# Altium integrated library ON Semi Signal Management Operational Amplifiers.IntLib: 435 symbols (part 4 of 12)
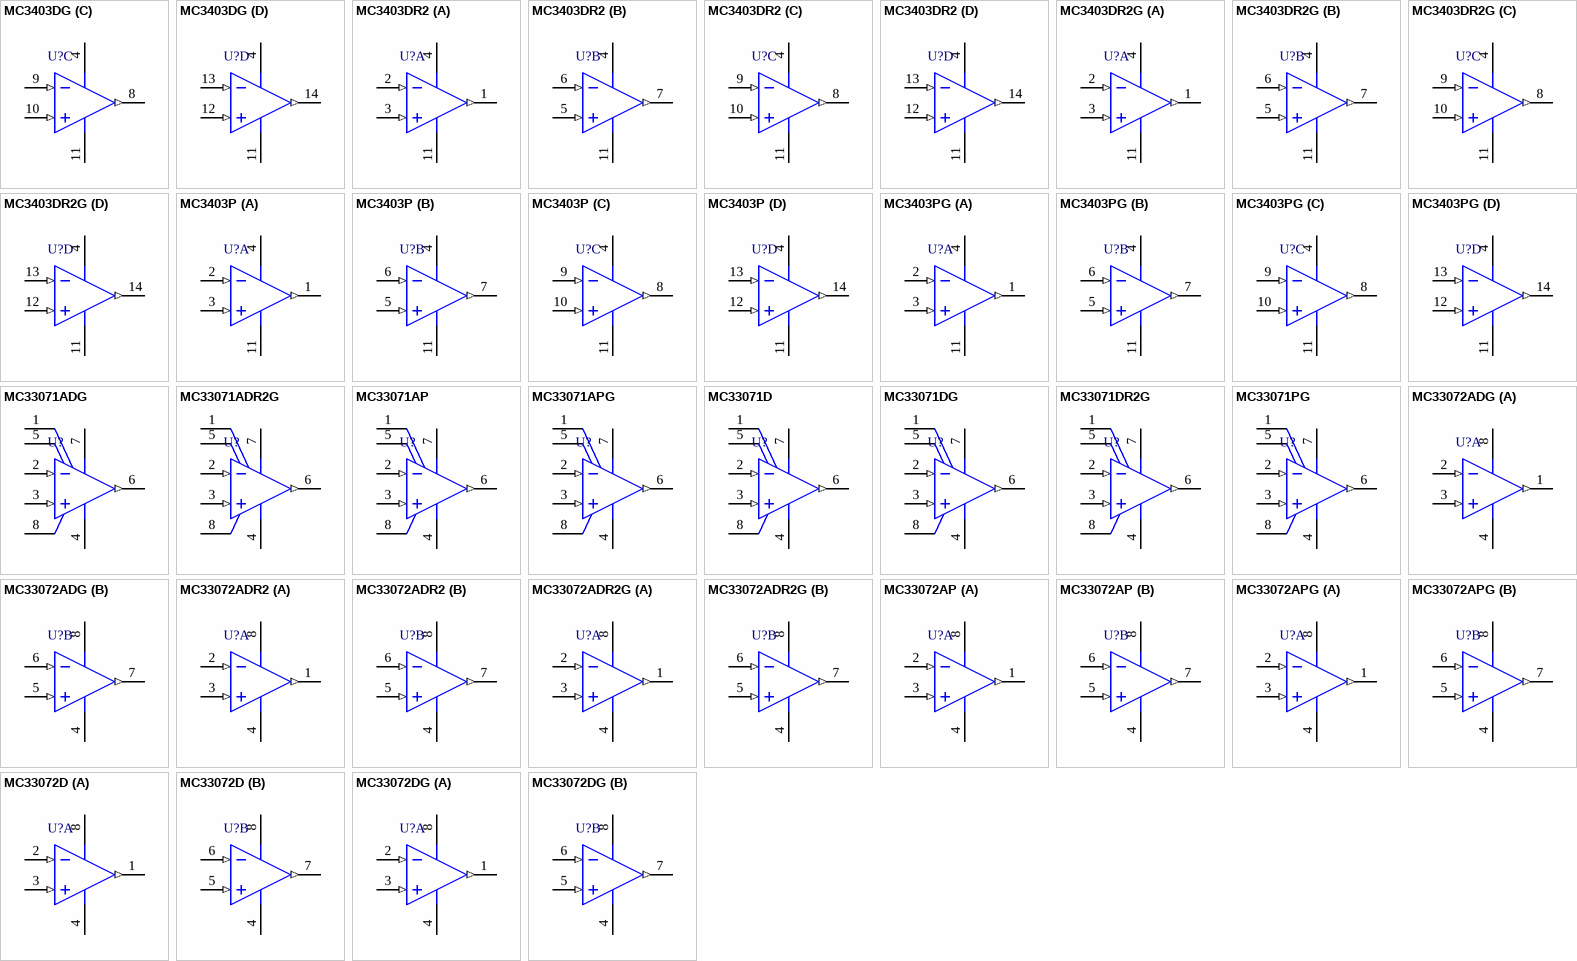
[diagram p28: symbols MC3403DG to MC33072DG]

## MC3403DR2G
designator U?
Single Supply Quad Operational Amplifier, 3 to 36 V, 0 to 70 degC, 14-Pin SOIC, Pb-Free, Tape and Reel; Manufacturer: On Semiconductor; PartNumber: MC3403DR2G; GBW Typ (MHz): 1; SR Typ (V/uS): 0.6; VCC Max (V): 36; VCC Min (V): 3; DatasheetVersion: Rev. 11; PackageVersion: Rev. H; PackageReference: SOIC-14-751A-03_H; PackageDescription: 14-Pin Small Outline Integrated Circuit, Body 8.65 x 3.9 mm, Pitch 1.27 mm; Supplier 1: Digi-Key; Supplier Part Number 1: MC3403DR2GOSTR-ND; Supplier 2: Digi-Key; Supplier Part Number 2: MC3403DR2GOSCT-ND; Supplier 3: Digi-Key; Supplier Part Number 3: MC3403DR2GOSDKR-ND; Supplier 4: Newark; Supplier Part Number 4: 84K8762; Supplier 5: Mouser; Supplier Part Number 5: 863-MC3403DR2G; Packing: Tape and Reel; RoHS: TRUE; Mounting Technology: Surface Mount; ComponentLink1Description: Manufacturer URL; ComponentLink1URL: http://www.onsemi.com/; ComponentLink2Description: Datasheet; ComponentLink2URL: http://www.onsemi.cn/pub_link/Collateral/MC3403-D.PDF; ComponentLink3Description: Package Specification; ComponentLink3URL: http://www.onsemi.com/pub_link/Collateral/MC74AC74-D.PDF
footprint ONSC-SOIC-14-751A-03_H_V (SOIC, 14-Leads, Body 8.75x4mm, Pitch 1.27mm)
pins on every part: 4 VCC (power), 11 VEE/GND (power)
part A pins: 1 OUT1 (out), 2 IN1- (in), 3 IN1+ (in)
part B pins: 5 IN2+ (in), 6 IN2- (in), 7 OUT2 (out)
part C pins: 8 OUT3 (out), 9 IN3- (in), 10 IN3+ (in)
part D pins: 12 IN4+ (in), 13 IN4- (in), 14 OUT4 (out)

## MC3403P
designator U?
Single Supply Quad Operational Amplifier, 3 to 36 V, 0 to 70 degC, 14-Pin PDIP, Tube; Manufacturer: On Semiconductor; PartNumber: MC3403P; GBW Typ (MHz): 1; SR Typ (V/uS): 0.6; VCC Max (V): 36; VCC Min (V): 3; DatasheetVersion: Rev. 11; PackageVersion: Rev. P, 10/2006; PackageReference: PDIP-14-646-06_P; PackageDescription: 14-Pin Plastic Dual-In Line Package, Body 18.86 x 6.35 mm, Pitch 2.54 mm; Packing: Tube; RoHS: FALSE; Mounting Technology: Through Hole; ComponentLink1Description: Manufacturer URL; ComponentLink1URL: http://www.onsemi.com/; ComponentLink2Description: Datasheet; ComponentLink2URL: http://www.onsemi.cn/pub_link/Collateral/MC3403-D.PDF; ComponentLink3Description: Package Specification; ComponentLink3URL: http://www.onsemi.com/pub_link/Collateral/MC14066B-D.PDF
footprint ONSC-PDIP-14-646-06_P (DIP, 14-Leads, Body 19.55x6.6mm, Pitch 2.54mm)
pins on every part: 4 VCC (power), 11 VEE/GND (power)
part A pins: 1 OUT1 (out), 2 IN1- (in), 3 IN1+ (in)
part B pins: 5 IN2+ (in), 6 IN2- (in), 7 OUT2 (out)
part C pins: 8 OUT3 (out), 9 IN3- (in), 10 IN3+ (in)
part D pins: 12 IN4+ (in), 13 IN4- (in), 14 OUT4 (out)

## MC3403PG
designator U?
Single Supply Quad Operational Amplifier, 3 to 36 V, 0 to 70 degC, 14-Pin PDIP, Pb-Free, Tube; Manufacturer: On Semiconductor; PartNumber: MC3403PG; GBW Typ (MHz): 1; SR Typ (V/uS): 0.6; VCC Max (V): 36; VCC Min (V): 3; DatasheetVersion: Rev. 11; PackageVersion: Rev. P, 10/2006; PackageReference: PDIP-14-646-06_P; PackageDescription: 14-Pin Plastic Dual-In Line Package, Body 18.86 x 6.35 mm, Pitch 2.54 mm; Supplier 1: Digi-Key; Supplier Part Number 1: MC3403PGOS-ND; Supplier 2: Farnell; Supplier Part Number 2: 1126440; Supplier 3: Newark; Supplier Part Number 3: 45J1207; Supplier 4: Mouser; Supplier Part Number 4: 863-MC3403PG; Packing: Tube; RoHS: TRUE; Mounting Technology: Through Hole; ComponentLink1Description: Manufacturer URL; ComponentLink1URL: http://www.onsemi.com/; ComponentLink2Description: Datasheet; ComponentLink2URL: http://www.onsemi.cn/pub_link/Collateral/MC3403-D.PDF; ComponentLink3Description: Package Specification; ComponentLink3URL: http://www.onsemi.com/pub_link/Collateral/MC14066B-D.PDF
footprint ONSC-PDIP-14-646-06_P (DIP, 14-Leads, Body 19.55x6.6mm, Pitch 2.54mm)
pins on every part: 4 VCC (power), 11 VEE/GND (power)
part A pins: 1 OUT1 (out), 2 IN1- (in), 3 IN1+ (in)
part B pins: 5 IN2+ (in), 6 IN2- (in), 7 OUT2 (out)
part C pins: 8 OUT3 (out), 9 IN3- (in), 10 IN3+ (in)
part D pins: 12 IN4+ (in), 13 IN4- (in), 14 OUT4 (out)

## MC33071ADG
designator U?
Single Supply Operational Amplifier, 3 to 44 V, -40 to 85 degC, 8-Pin SOIC, Pb-Free, Tube; Manufacturer: On Semiconductor; PartNumber: MC33071ADG; GBW Typ (MHz): 4.5; VCC Max (V): 44; VCC Min (V): 3; DatasheetVersion: Rev. 22; PackageVersion: Rev. AK, 02/2011; PackageReference: SOIC-8-751-07; PackageDescription: 8-Pin Small Outline Integrated Circuit, Body 4.9 x 3.9 mm, Pitch 1.27 mm; Supplier 1: Digi-Key; Supplier Part Number 1: MC33071ADGOS-ND; Supplier 2: Farnell; Supplier Part Number 2: 2102543; Supplier 3: Newark; Supplier Part Number 3: 98H0669; Supplier 4: Mouser; Supplier Part Number 4: 863-MC33071ADG; Packing: Tube; RoHS: TRUE; Mounting Technology: Surface Mount; ComponentLink1Description: Manufacturer URL; ComponentLink1URL: http://www.onsemi.com/; ComponentLink2Description: Datasheet; ComponentLink2URL: http://www.onsemi.cn/pub_link/Collateral/MC34071-D.PDF; ComponentLink3Description: Package Specification; ComponentLink3URL: http://www.onsemi.com/pub_link/Collateral/751-07.PDF
footprint ONSC-SOIC-8-751-07_V (SOIC, 8-Leads, Body 4.9x3.9mm, Pitch 1.27mm)
pins: 1 OFFSET NULL, 2 IN- (in), 3 IN+ (in), 4 VEE (power), 5 OFFSET NULL, 6 OUT (out), 7 VCC (power), 8 NC

## MC33071ADR2G
designator U?
Single Supply Operational Amplifier, 3 to 44 V, -40 to 85 degC, 8-Pin SOIC, Pb-Free, Tape and Reel; Manufacturer: On Semiconductor; PartNumber: MC33071ADR2G; GBW Typ (MHz): 4.5; VCC Max (V): 44; VCC Min (V): 3; DatasheetVersion: Rev. 22; PackageVersion: Rev. AK, 02/2011; PackageReference: SOIC-8-751-07; PackageDescription: 8-Pin Small Outline Integrated Circuit, Body 4.9 x 3.9 mm, Pitch 1.27 mm; Supplier 1: Digi-Key; Supplier Part Number 1: MC33071ADR2G-ND; Supplier 2: Newark; Supplier Part Number 2: 42K0569; Supplier 3: Mouser; Supplier Part Number 3: 863-MC33071ADR2G; Packing: Tape and Reel; RoHS: TRUE; Mounting Technology: Surface Mount; ComponentLink1Description: Manufacturer URL; ComponentLink1URL: http://www.onsemi.com/; ComponentLink2Description: Datasheet; ComponentLink2URL: http://www.onsemi.cn/pub_link/Collateral/MC34071-D.PDF; ComponentLink3Description: Package Specification; ComponentLink3URL: http://www.onsemi.com/pub_link/Collateral/751-07.PDF
footprint ONSC-SOIC-8-751-07_V (SOIC, 8-Leads, Body 4.9x3.9mm, Pitch 1.27mm)
pins: 1 OFFSET NULL, 2 IN- (in), 3 IN+ (in), 4 VEE (power), 5 OFFSET NULL, 6 OUT (out), 7 VCC (power), 8 NC

## MC33071AP
designator U?
Single Supply Operational Amplifier, 3 to 44 V, -40 to 85 degC, 8-Pin PDIP, Tube; Manufacturer: On Semiconductor; PartNumber: MC33071AP; GBW Typ (MHz): 4.5; VCC Max (V): 44; VCC Min (V): 3; DatasheetVersion: Rev. 22; PackageVersion: Rev. N, 06/2013; PackageReference: PDIP-8-626-05; PackageDescription: 8-Pin Plastic Dual-In Line Package, Body 9.59 x 6.605 mm, Pitch 2.54 mm; Supplier 1: Mouser; Supplier Part Number 1: 863-MC33071AP; Packing: Tube; RoHS: FALSE; Mounting Technology: Through Hole; ComponentLink1Description: Manufacturer URL; ComponentLink1URL: http://www.onsemi.com/; ComponentLink2Description: Datasheet; ComponentLink2URL: http://www.onsemi.cn/pub_link/Collateral/MC34071-D.PDF; ComponentLink3Description: Package Specification; ComponentLink3URL: http://www.onsemi.cn/pub_link/Collateral/626-05.PDF
footprint ONSC-PDIP-8-626-05 (DIP, 8-Leads, Body 10.15x7.1mm, Pitch 2.54mm)
pins: 1 OFFSET NULL, 2 IN- (in), 3 IN+ (in), 4 VEE (power), 5 OFFSET NULL, 6 OUT (out), 7 VCC (power), 8 NC

## MC33071APG
designator U?
Single Supply Operational Amplifier, 3 to 44 V, -40 to 85 degC, 8-Pin PDIP, Pb-Free, Tube; Manufacturer: On Semiconductor; PartNumber: MC33071APG; GBW Typ (MHz): 4.5; VCC Max (V): 44; VCC Min (V): 3; DatasheetVersion: Rev. 22; PackageVersion: Rev. N, 06/2013; PackageReference: PDIP-8-626-05; PackageDescription: 8-Pin Plastic Dual-In Line Package, Body 9.59 x 6.605 mm, Pitch 2.54 mm; Supplier 1: Digi-Key; Supplier Part Number 1: MC33071APGOS-ND; Supplier 2: Farnell; Supplier Part Number 2: 1315259; Supplier 3: Newark; Supplier Part Number 3: 42K0570; Supplier 4: Mouser; Supplier Part Number 4: 863-MC33071APG; Packing: Tube; RoHS: TRUE; Mounting Technology: Through Hole; ComponentLink1Description: Manufacturer URL; ComponentLink1URL: http://www.onsemi.com/; ComponentLink2Description: Datasheet; ComponentLink2URL: http://www.onsemi.cn/pub_link/Collateral/MC34071-D.PDF; ComponentLink3Description: Package Specification; ComponentLink3URL: http://www.onsemi.cn/pub_link/Collateral/626-05.PDF
footprint ONSC-PDIP-8-626-05 (DIP, 8-Leads, Body 10.15x7.1mm, Pitch 2.54mm)
pins: 1 OFFSET NULL, 2 IN- (in), 3 IN+ (in), 4 VEE (power), 5 OFFSET NULL, 6 OUT (out), 7 VCC (power), 8 NC

## MC33071D
designator U?
Single Supply Operational Amplifier, 3 to 44 V, -40 to 85 degC, 8-Pin SOIC, Tube; Manufacturer: On Semiconductor; PartNumber: MC33071D; GBW Typ (MHz): 4.5; VCC Max (V): 44; VCC Min (V): 3; DatasheetVersion: Rev. 22; PackageVersion: Rev. AK, 02/2011; PackageReference: SOIC-8-751-07; PackageDescription: 8-Pin Small Outline Integrated Circuit, Body 4.9 x 3.9 mm, Pitch 1.27 mm; Packing: Tube; RoHS: FALSE; Mounting Technology: Surface Mount; ComponentLink1Description: Manufacturer URL; ComponentLink1URL: http://www.onsemi.com/; ComponentLink2Description: Datasheet; ComponentLink2URL: http://www.onsemi.cn/pub_link/Collateral/MC34071-D.PDF; ComponentLink3Description: Package Specification; ComponentLink3URL: http://www.onsemi.com/pub_link/Collateral/751-07.PDF
footprint ONSC-SOIC-8-751-07_V (SOIC, 8-Leads, Body 4.9x3.9mm, Pitch 1.27mm)
pins: 1 OFFSET NULL, 2 IN- (in), 3 IN+ (in), 4 VEE (power), 5 OFFSET NULL, 6 OUT (out), 7 VCC (power), 8 NC

## MC33071DG
designator U?
Single Supply Operational Amplifier, 3 to 44 V, -40 to 85 degC, 8-Pin SOIC, Pb-Free, Tube; Manufacturer: On Semiconductor; PartNumber: MC33071DG; GBW Typ (MHz): 4.5; VCC Max (V): 44; VCC Min (V): 3; DatasheetVersion: Rev. 22; PackageVersion: Rev. AK, 02/2011; PackageReference: SOIC-8-751-07; PackageDescription: 8-Pin Small Outline Integrated Circuit, Body 4.9 x 3.9 mm, Pitch 1.27 mm; Supplier 1: Digi-Key; Supplier Part Number 1: MC33071DGOS-ND; Supplier 2: Newark; Supplier Part Number 2: 26K3996; Supplier 3: Mouser; Supplier Part Number 3: 863-MC33071DG; Packing: Tube; RoHS: TRUE; Mounting Technology: Surface Mount; ComponentLink1Description: Manufacturer URL; ComponentLink1URL: http://www.onsemi.com/; ComponentLink2Description: Datasheet; ComponentLink2URL: http://www.onsemi.cn/pub_link/Collateral/MC34071-D.PDF; ComponentLink3Description: Package Specification; ComponentLink3URL: http://www.onsemi.com/pub_link/Collateral/751-07.PDF
footprint ONSC-SOIC-8-751-07_V (SOIC, 8-Leads, Body 4.9x3.9mm, Pitch 1.27mm)
pins: 1 OFFSET NULL, 2 IN- (in), 3 IN+ (in), 4 VEE (power), 5 OFFSET NULL, 6 OUT (out), 7 VCC (power), 8 NC

## MC33071DR2G
designator U?
Single Supply Operational Amplifier, 3 to 44 V, -40 to 85 degC, 8-Pin SOIC, Pb-Free, Tape and Reel; Manufacturer: On Semiconductor; PartNumber: MC33071DR2G; GBW Typ (MHz): 4.5; VCC Max (V): 44; VCC Min (V): 3; DatasheetVersion: Rev. 22; PackageVersion: Rev. AK, 02/2011; PackageReference: SOIC-8-751-07; PackageDescription: 8-Pin Small Outline Integrated Circuit, Body 4.9 x 3.9 mm, Pitch 1.27 mm; Supplier 1: Digi-Key; Supplier Part Number 1: MC33071DR2GOSTR-ND; Supplier 2: Digi-Key; Supplier Part Number 2: MC33071DR2GOSCT-ND; Supplier 3: Mouser; Supplier Part Number 3: 863-MC33071DR2G; Packing: Tape and Reel; RoHS: TRUE; Mounting Technology: Surface Mount; ComponentLink1Description: Manufacturer URL; ComponentLink1URL: http://www.onsemi.com/; ComponentLink2Description: Datasheet; ComponentLink2URL: http://www.onsemi.cn/pub_link/Collateral/MC34071-D.PDF; ComponentLink3Description: Package Specification; ComponentLink3URL: http://www.onsemi.com/pub_link/Collateral/751-07.PDF
footprint ONSC-SOIC-8-751-07_V (SOIC, 8-Leads, Body 4.9x3.9mm, Pitch 1.27mm)
pins: 1 OFFSET NULL, 2 IN- (in), 3 IN+ (in), 4 VEE (power), 5 OFFSET NULL, 6 OUT (out), 7 VCC (power), 8 NC

## MC33071PG
designator U?
Single Supply Operational Amplifier, 3 to 44 V, -40 to 85 degC, 8-Pin PDIP, Pb-Free, Tube; Manufacturer: On Semiconductor; PartNumber: MC33071PG; GBW Typ (MHz): 4.5; VCC Max (V): 44; VCC Min (V): 3; DatasheetVersion: Rev. 22; PackageVersion: Rev. N, 06/2013; PackageReference: PDIP-8-626-05; PackageDescription: 8-Pin Plastic Dual-In Line Package, Body 9.59 x 6.605 mm, Pitch 2.54 mm; Supplier 1: Digi-Key; Supplier Part Number 1: MC33071PGOS-ND; Supplier 2: Newark; Supplier Part Number 2: 42K0571; Supplier 3: Mouser; Supplier Part Number 3: 863-MC33071PG; Packing: Tube; RoHS: TRUE; Mounting Technology: Through Hole; ComponentLink1Description: Manufacturer URL; ComponentLink1URL: http://www.onsemi.com/; ComponentLink2Description: Datasheet; ComponentLink2URL: http://www.onsemi.cn/pub_link/Collateral/MC34071-D.PDF; ComponentLink3Description: Package Specification; ComponentLink3URL: http://www.onsemi.cn/pub_link/Collateral/626-05.PDF
footprint ONSC-PDIP-8-626-05 (DIP, 8-Leads, Body 10.15x7.1mm, Pitch 2.54mm)
pins: 1 OFFSET NULL, 2 IN- (in), 3 IN+ (in), 4 VEE (power), 5 OFFSET NULL, 6 OUT (out), 7 VCC (power), 8 NC

## MC33072ADG
designator U?
Single Supply Operational Amplifier, 3 to 44 V, -40 to 85 degC, 8-Pin SOIC, Pb-Free, Tube; Manufacturer: On Semiconductor; PartNumber: MC33072ADG; GBW Typ (MHz): 4.5; VCC Max (V): 44; VCC Min (V): 3; DatasheetVersion: Rev. 22; PackageVersion: Rev. AK, 02/2011; PackageReference: SOIC-8-751-07; PackageDescription: 8-Pin Small Outline Integrated Circuit, Body 4.9 x 3.9 mm, Pitch 1.27 mm; Supplier 1: Digi-Key; Supplier Part Number 1: MC33072ADGOS-ND; Supplier 2: Farnell; Supplier Part Number 2: 1468736; Supplier 3: Newark; Supplier Part Number 3: 98H0670; Supplier 4: Mouser; Supplier Part Number 4: 863-MC33072ADG; Packing: Tube; RoHS: TRUE; Mounting Technology: Surface Mount; ComponentLink1Description: Manufacturer URL; ComponentLink1URL: http://www.onsemi.com/; ComponentLink2Description: Datasheet; ComponentLink2URL: http://www.onsemi.cn/pub_link/Collateral/MC34071-D.PDF; ComponentLink3Description: Package Specification; ComponentLink3URL: http://www.onsemi.com/pub_link/Collateral/751-07.PDF
footprint ONSC-SOIC-8-751-07_V (SOIC, 8-Leads, Body 4.9x3.9mm, Pitch 1.27mm)
pins on every part: 4 VEE (power), 8 VCC (power)
part A pins: 1 OUT1 (out), 2 IN1- (in), 3 IN1+ (in)
part B pins: 5 IN2+ (in), 6 IN2- (in), 7 OUT2 (out)

## MC33072ADR2
designator U?
Single Supply Operational Amplifier, 3 to 44 V, -40 to 85 degC, 8-Pin SOIC, Tape and Reel; Manufacturer: On Semiconductor; PartNumber: MC33072ADR2; GBW Typ (MHz): 4.5; VCC Max (V): 44; VCC Min (V): 3; DatasheetVersion: Rev. 22; PackageVersion: Rev. AK, 02/2011; PackageReference: SOIC-8-751-07; PackageDescription: 8-Pin Small Outline Integrated Circuit, Body 4.9 x 3.9 mm, Pitch 1.27 mm; Supplier 1: Digi-Key; Supplier Part Number 1: MC33072ADR2OSCT-ND; Packing: Tape and Reel; RoHS: FALSE; Mounting Technology: Surface Mount; ComponentLink1Description: Manufacturer URL; ComponentLink1URL: http://www.onsemi.com/; ComponentLink2Description: Datasheet; ComponentLink2URL: http://www.onsemi.cn/pub_link/Collateral/MC34071-D.PDF; ComponentLink3Description: Package Specification; ComponentLink3URL: http://www.onsemi.com/pub_link/Collateral/751-07.PDF
footprint ONSC-SOIC-8-751-07_V (SOIC, 8-Leads, Body 4.9x3.9mm, Pitch 1.27mm)
pins on every part: 4 VEE (power), 8 VCC (power)
part A pins: 1 OUT1 (out), 2 IN1- (in), 3 IN1+ (in)
part B pins: 5 IN2+ (in), 6 IN2- (in), 7 OUT2 (out)

## MC33072ADR2G
designator U?
Single Supply Operational Amplifier, 3 to 44 V, -40 to 85 degC, 8-Pin SOIC, Pb-Free, Tape and Reel; Manufacturer: On Semiconductor; PartNumber: MC33072ADR2G; GBW Typ (MHz): 4.5; VCC Max (V): 44; VCC Min (V): 3; DatasheetVersion: Rev. 22; PackageVersion: Rev. AK, 02/2011; PackageReference: SOIC-8-751-07; PackageDescription: 8-Pin Small Outline Integrated Circuit, Body 4.9 x 3.9 mm, Pitch 1.27 mm; Supplier 1: Digi-Key; Supplier Part Number 1: MC33072ADR2GOSTR-ND; Supplier 2: Digi-Key; Supplier Part Number 2: MC33072ADR2GOSCT-ND; Supplier 3: Digi-Key; Supplier Part Number 3: MC33072ADR2GOSDKR-ND; Supplier 4: Newark; Supplier Part Number 4: 98H0671; Supplier 5: Mouser; Supplier Part Number 5: 863-MC33072ADR2G; Packing: Tape and Reel; RoHS: TRUE; Mounting Technology: Surface Mount; ComponentLink1Description: Manufacturer URL; ComponentLink1URL: http://www.onsemi.com/; ComponentLink2Description: Datasheet; ComponentLink2URL: http://www.onsemi.cn/pub_link/Collateral/MC34071-D.PDF; ComponentLink3Description: Package Specification; ComponentLink3URL: http://www.onsemi.com/pub_link/Collateral/751-07.PDF
footprint ONSC-SOIC-8-751-07_V (SOIC, 8-Leads, Body 4.9x3.9mm, Pitch 1.27mm)
pins on every part: 4 VEE (power), 8 VCC (power)
part A pins: 1 OUT1 (out), 2 IN1- (in), 3 IN1+ (in)
part B pins: 5 IN2+ (in), 6 IN2- (in), 7 OUT2 (out)

## MC33072AP
designator U?
Single Supply Operational Amplifier, 3 to 44 V, -40 to 85 degC, 8-Pin PDIP, Tube; Manufacturer: On Semiconductor; PartNumber: MC33072AP; GBW Typ (MHz): 4.5; VCC Max (V): 44; VCC Min (V): 3; DatasheetVersion: Rev. 22; PackageVersion: Rev. N, 06/2013; PackageReference: PDIP-8-626-05; PackageDescription: 8-Pin Plastic Dual-In Line Package, Body 9.59 x 6.605 mm, Pitch 2.54 mm; Packing: Tube; RoHS: FALSE; Mounting Technology: Through Hole; ComponentLink1Description: Manufacturer URL; ComponentLink1URL: http://www.onsemi.com/; ComponentLink2Description: Datasheet; ComponentLink2URL: http://www.onsemi.cn/pub_link/Collateral/MC34071-D.PDF; ComponentLink3Description: Package Specification; ComponentLink3URL: http://www.onsemi.cn/pub_link/Collateral/626-05.PDF
footprint ONSC-PDIP-8-626-05 (DIP, 8-Leads, Body 10.15x7.1mm, Pitch 2.54mm)
pins on every part: 4 VEE (power), 8 VCC (power)
part A pins: 1 OUT1 (out), 2 IN1- (in), 3 IN1+ (in)
part B pins: 5 IN2+ (in), 6 IN2- (in), 7 OUT2 (out)

## MC33072APG
designator U?
Single Supply Operational Amplifier, 3 to 44 V, -40 to 85 degC, 8-Pin PDIP, Pb-Free, Tube; Manufacturer: On Semiconductor; PartNumber: MC33072APG; GBW Typ (MHz): 4.5; VCC Max (V): 44; VCC Min (V): 3; DatasheetVersion: Rev. 22; PackageVersion: Rev. N, 06/2013; PackageReference: PDIP-8-626-05; PackageDescription: 8-Pin Plastic Dual-In Line Package, Body 9.59 x 6.605 mm, Pitch 2.54 mm; Supplier 1: Digi-Key; Supplier Part Number 1: MC33072APGOS-ND; Supplier 2: Farnell; Supplier Part Number 2: 1147620; Supplier 3: Newark; Supplier Part Number 3: 26K3998; Supplier 4: Mouser; Supplier Part Number 4: 863-MC33072APG; Packing: Tube; RoHS: TRUE; Mounting Technology: Through Hole; ComponentLink1Description: Manufacturer URL; ComponentLink1URL: http://www.onsemi.com/; ComponentLink2Description: Datasheet; ComponentLink2URL: http://www.onsemi.cn/pub_link/Collateral/MC34071-D.PDF; ComponentLink3Description: Package Specification; ComponentLink3URL: http://www.onsemi.cn/pub_link/Collateral/626-05.PDF
footprint ONSC-PDIP-8-626-05 (DIP, 8-Leads, Body 10.15x7.1mm, Pitch 2.54mm)
pins on every part: 4 VEE (power), 8 VCC (power)
part A pins: 1 OUT1 (out), 2 IN1- (in), 3 IN1+ (in)
part B pins: 5 IN2+ (in), 6 IN2- (in), 7 OUT2 (out)

## MC33072D
designator U?
Single Supply Operational Amplifier, 3 to 44 V, -40 to 85 degC, 8-Pin SOIC, Tube; Manufacturer: On Semiconductor; PartNumber: MC33072D; GBW Typ (MHz): 4.5; VCC Max (V): 44; VCC Min (V): 3; DatasheetVersion: Rev. 22; PackageVersion: Rev. AK, 02/2011; PackageReference: SOIC-8-751-07; PackageDescription: 8-Pin Small Outline Integrated Circuit, Body 4.9 x 3.9 mm, Pitch 1.27 mm; Packing: Tube; RoHS: FALSE; Mounting Technology: Surface Mount; ComponentLink1Description: Manufacturer URL; ComponentLink1URL: http://www.onsemi.com/; ComponentLink2Description: Datasheet; ComponentLink2URL: http://www.onsemi.cn/pub_link/Collateral/MC34071-D.PDF; ComponentLink3Description: Package Specification; ComponentLink3URL: http://www.onsemi.com/pub_link/Collateral/751-07.PDF
footprint ONSC-SOIC-8-751-07_V (SOIC, 8-Leads, Body 4.9x3.9mm, Pitch 1.27mm)
pins on every part: 4 VEE (power), 8 VCC (power)
part A pins: 1 OUT1 (out), 2 IN1- (in), 3 IN1+ (in)
part B pins: 5 IN2+ (in), 6 IN2- (in), 7 OUT2 (out)

## MC33072DG
designator U?
Single Supply Operational Amplifier, 3 to 44 V, -40 to 85 degC, 8-Pin SOIC, Pb-Free, Tube; Manufacturer: On Semiconductor; PartNumber: MC33072DG; GBW Typ (MHz): 4.5; VCC Max (V): 44; VCC Min (V): 3; DatasheetVersion: Rev. 22; PackageVersion: Rev. AK, 02/2011; PackageReference: SOIC-8-751-07; PackageDescription: 8-Pin Small Outline Integrated Circuit, Body 4.9 x 3.9 mm, Pitch 1.27 mm; Supplier 1: Digi-Key; Supplier Part Number 1: MC33072DGOS-ND; Supplier 2: Farnell; Supplier Part Number 2: 1651872; Supplier 3: Newark; Supplier Part Number 3: 71J5514; Supplier 4: Mouser; Supplier Part Number 4: 863-MC33072DG; Packing: Tube; RoHS: TRUE; Mounting Technology: Surface Mount; ComponentLink1Description: Manufacturer URL; ComponentLink1URL: http://www.onsemi.com/; ComponentLink2Description: Datasheet; ComponentLink2URL: http://www.onsemi.cn/pub_link/Collateral/MC34071-D.PDF; ComponentLink3Description: Package Specification; ComponentLink3URL: http://www.onsemi.com/pub_link/Collateral/751-07.PDF
footprint ONSC-SOIC-8-751-07_V (SOIC, 8-Leads, Body 4.9x3.9mm, Pitch 1.27mm)
pins on every part: 4 VEE (power), 8 VCC (power)
part A pins: 1 OUT1 (out), 2 IN1- (in), 3 IN1+ (in)
part B pins: 5 IN2+ (in), 6 IN2- (in), 7 OUT2 (out)

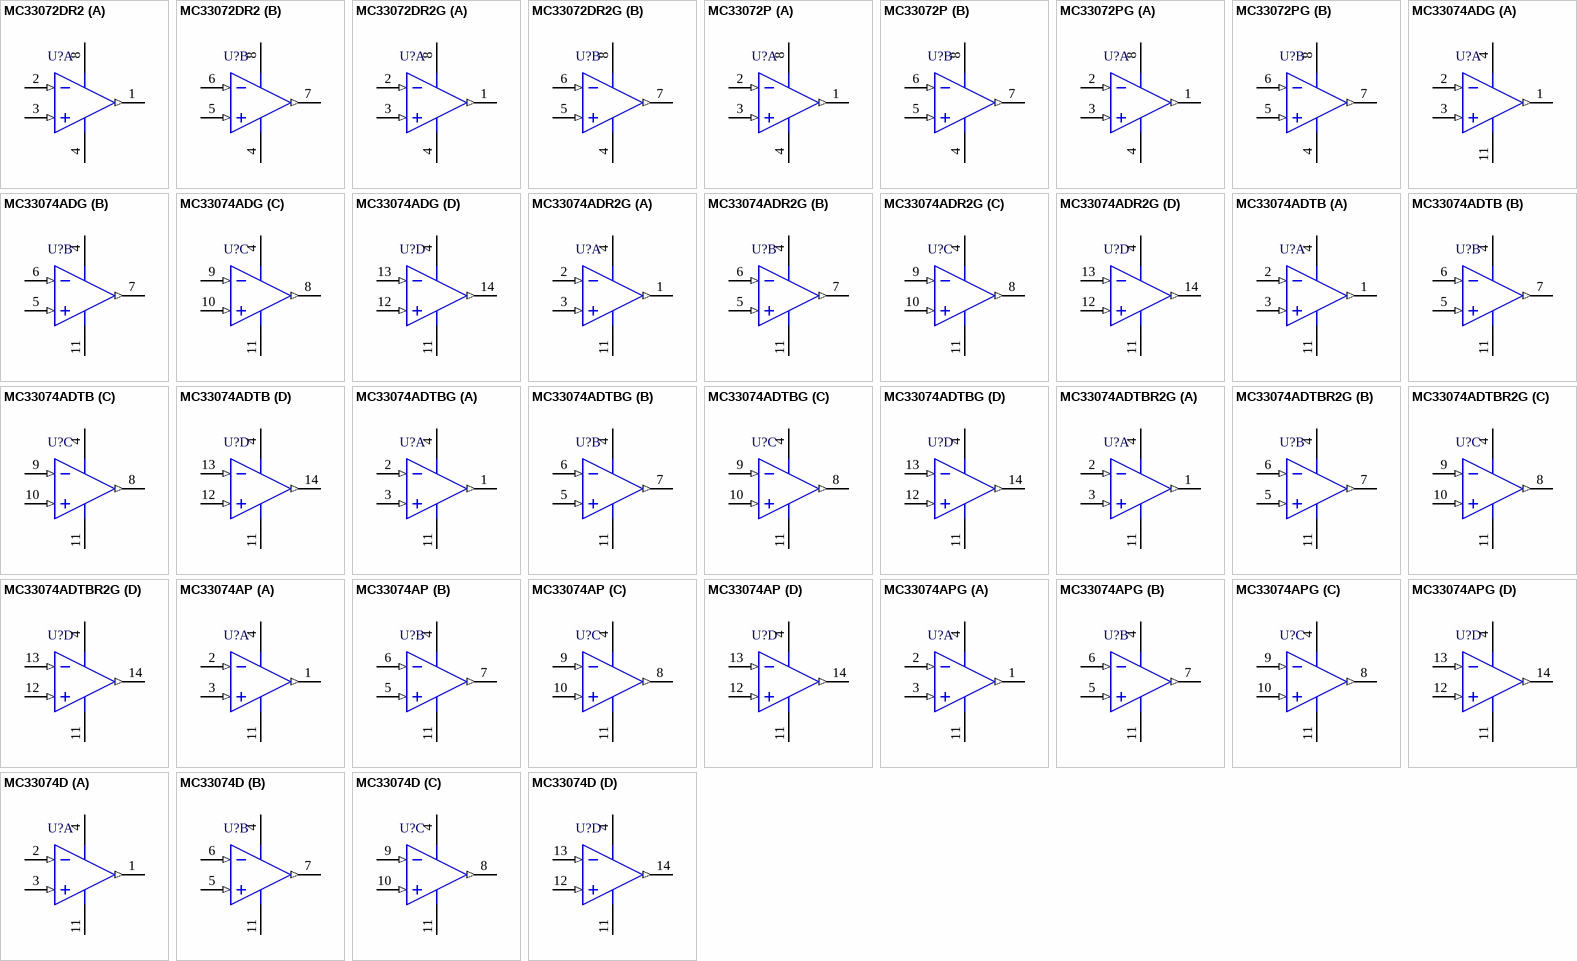
[diagram p8: symbols MC33072DR2 to MC33074D]

## MC33072DR2
designator U?
Single Supply Operational Amplifier, 3 to 44 V, -40 to 85 degC, 8-Pin SOIC, Tape and Reel; Manufacturer: On Semiconductor; PartNumber: MC33072DR2; GBW Typ (MHz): 4.5; VCC Max (V): 44; VCC Min (V): 3; DatasheetVersion: Rev. 22; PackageVersion: Rev. AK, 02/2011; PackageReference: SOIC-8-751-07; PackageDescription: 8-Pin Small Outline Integrated Circuit, Body 4.9 x 3.9 mm, Pitch 1.27 mm; Supplier 1: Digi-Key; Supplier Part Number 1: MC33072DR2OSCT-ND; Packing: Tape and Reel; RoHS: FALSE; Mounting Technology: Surface Mount; ComponentLink1Description: Manufacturer URL; ComponentLink1URL: http://www.onsemi.com/; ComponentLink2Description: Datasheet; ComponentLink2URL: http://www.onsemi.cn/pub_link/Collateral/MC34071-D.PDF; ComponentLink3Description: Package Specification; ComponentLink3URL: http://www.onsemi.com/pub_link/Collateral/751-07.PDF
footprint ONSC-SOIC-8-751-07_V (SOIC, 8-Leads, Body 4.9x3.9mm, Pitch 1.27mm)
pins on every part: 4 VEE (power), 8 VCC (power)
part A pins: 1 OUT1 (out), 2 IN1- (in), 3 IN1+ (in)
part B pins: 5 IN2+ (in), 6 IN2- (in), 7 OUT2 (out)

## MC33072DR2G
designator U?
Single Supply Operational Amplifier, 3 to 44 V, -40 to 85 degC, 8-Pin SOIC, Pb-Free, Tape and Reel; Manufacturer: On Semiconductor; PartNumber: MC33072DR2G; GBW Typ (MHz): 4.5; VCC Max (V): 44; VCC Min (V): 3; DatasheetVersion: Rev. 22; PackageVersion: Rev. AK, 02/2011; PackageReference: SOIC-8-751-07; PackageDescription: 8-Pin Small Outline Integrated Circuit, Body 4.9 x 3.9 mm, Pitch 1.27 mm; Supplier 1: Digi-Key; Supplier Part Number 1: MC33072DR2GOSTR-ND; Supplier 2: Digi-Key; Supplier Part Number 2: MC33072DR2GOSCT-ND; Supplier 3: Digi-Key; Supplier Part Number 3: MC33072DR2GOSDKR-ND; Supplier 4: Newark; Supplier Part Number 4: 88H4723; Supplier 5: Newark; Supplier Part Number 5: 29X6049; Supplier 6: Mouser; Supplier Part Number 6: 863-MC33072DR2G; Packing: Tape and Reel; RoHS: TRUE; Mounting Technology: Surface Mount; ComponentLink1Description: Manufacturer URL; ComponentLink1URL: http://www.onsemi.com/; ComponentLink2Description: Datasheet; ComponentLink2URL: http://www.onsemi.cn/pub_link/Collateral/MC34071-D.PDF; ComponentLink3Description: Package Specification; ComponentLink3URL: http://www.onsemi.com/pub_link/Collateral/751-07.PDF
footprint ONSC-SOIC-8-751-07_V (SOIC, 8-Leads, Body 4.9x3.9mm, Pitch 1.27mm)
pins on every part: 4 VEE (power), 8 VCC (power)
part A pins: 1 OUT1 (out), 2 IN1- (in), 3 IN1+ (in)
part B pins: 5 IN2+ (in), 6 IN2- (in), 7 OUT2 (out)

## MC33072P
designator U?
Single Supply Operational Amplifier, 3 to 44 V, -40 to 85 degC, 8-Pin PDIP, Tube; Manufacturer: On Semiconductor; PartNumber: MC33072P; GBW Typ (MHz): 4.5; VCC Max (V): 44; VCC Min (V): 3; DatasheetVersion: Rev. 22; PackageVersion: Rev. N, 06/2013; PackageReference: PDIP-8-626-05; PackageDescription: 8-Pin Plastic Dual-In Line Package, Body 9.59 x 6.605 mm, Pitch 2.54 mm; Packing: Tube; RoHS: FALSE; Mounting Technology: Through Hole; ComponentLink1Description: Manufacturer URL; ComponentLink1URL: http://www.onsemi.com/; ComponentLink2Description: Datasheet; ComponentLink2URL: http://www.onsemi.cn/pub_link/Collateral/MC34071-D.PDF; ComponentLink3Description: Package Specification; ComponentLink3URL: http://www.onsemi.cn/pub_link/Collateral/626-05.PDF
footprint ONSC-PDIP-8-626-05 (DIP, 8-Leads, Body 10.15x7.1mm, Pitch 2.54mm)
pins on every part: 4 VEE (power), 8 VCC (power)
part A pins: 1 OUT1 (out), 2 IN1- (in), 3 IN1+ (in)
part B pins: 5 IN2+ (in), 6 IN2- (in), 7 OUT2 (out)

## MC33072PG
designator U?
Single Supply Operational Amplifier, 3 to 44 V, -40 to 85 degC, 8-Pin PDIP, Pb-Free, Tube; Manufacturer: On Semiconductor; PartNumber: MC33072PG; GBW Typ (MHz): 4.5; VCC Max (V): 44; VCC Min (V): 3; DatasheetVersion: Rev. 22; PackageVersion: Rev. N, 06/2013; PackageReference: PDIP-8-626-05; PackageDescription: 8-Pin Plastic Dual-In Line Package, Body 9.59 x 6.605 mm, Pitch 2.54 mm; Supplier 1: Digi-Key; Supplier Part Number 1: MC33072PGOS-ND; Supplier 2: Farnell; Supplier Part Number 2: 1191841; Supplier 3: Newark; Supplier Part Number 3: 98H0672; Supplier 4: Mouser; Supplier Part Number 4: 863-MC33072PG; Packing: Tube; RoHS: TRUE; Mounting Technology: Through Hole; ComponentLink1Description: Manufacturer URL; ComponentLink1URL: http://www.onsemi.com/; ComponentLink2Description: Datasheet; ComponentLink2URL: http://www.onsemi.cn/pub_link/Collateral/MC34071-D.PDF; ComponentLink3Description: Package Specification; ComponentLink3URL: http://www.onsemi.cn/pub_link/Collateral/626-05.PDF
footprint ONSC-PDIP-8-626-05 (DIP, 8-Leads, Body 10.15x7.1mm, Pitch 2.54mm)
pins on every part: 4 VEE (power), 8 VCC (power)
part A pins: 1 OUT1 (out), 2 IN1- (in), 3 IN1+ (in)
part B pins: 5 IN2+ (in), 6 IN2- (in), 7 OUT2 (out)

## MC33074ADG
designator U?
Single Supply Operational Amplifier, 3 to 44 V, -40 to 85 degC, 14-Pin SOIC, Pb-Free, Tube; Manufacturer: On Semiconductor; PartNumber: MC33074ADG; GBW Typ (MHz): 4.5; VCC Max (V): 44; VCC Min (V): 3; DatasheetVersion: Rev. 22; PackageVersion: Rev. K, 05/2011; PackageReference: SOIC-14-751A-03; PackageDescription: 14-Pin Small Outline Integrated Circuit, Body 8.65 x 3.9 mm, Pitch 1.27 mm; Supplier 1: Digi-Key; Supplier Part Number 1: MC33074ADGOS-ND; Supplier 2: Farnell; Supplier Part Number 2: 1136151; Supplier 3: Newark; Supplier Part Number 3: 45J1159; Supplier 4: Mouser; Supplier Part Number 4: 863-MC33074ADG; Packing: Tube; RoHS: TRUE; Mounting Technology: Surface Mount; ComponentLink1Description: Manufacturer URL; ComponentLink1URL: http://www.onsemi.com/; ComponentLink2Description: Datasheet; ComponentLink2URL: http://www.onsemi.cn/pub_link/Collateral/MC34071-D.PDF; ComponentLink3Description: Package Specification; ComponentLink3URL: http://www.onsemi.com/pub_link/Collateral/751A-03.PDF
footprint ONSC-SOIC-14-751A-03_V (SOIC, 14-Leads, Body 8.75x4mm, Pitch 1.27mm)
pins on every part: 4 VCC (power), 11 VEE (power)
part A pins: 1 OUT1 (out), 2 IN1- (in), 3 IN1+ (in)
part B pins: 5 IN2+ (in), 6 IN2- (in), 7 OUT2 (out)
part C pins: 8 OUT3 (out), 9 IN3- (in), 10 IN3+ (in)
part D pins: 12 IN4+ (in), 13 IN4- (in), 14 OUT4 (out)

## MC33074ADR2G
designator U?
Single Supply Operational Amplifier, 3 to 44 V, -40 to 85 degC, 14-Pin SOIC, Pb-Free, Tape and Reel; Manufacturer: On Semiconductor; PartNumber: MC33074ADR2G; GBW Typ (MHz): 4.5; VCC Max (V): 44; VCC Min (V): 3; DatasheetVersion: Rev. 22; PackageVersion: Rev. K, 05/2011; PackageReference: SOIC-14-751A-03; PackageDescription: 14-Pin Small Outline Integrated Circuit, Body 8.65 x 3.9 mm, Pitch 1.27 mm; Supplier 1: Digi-Key; Supplier Part Number 1: MC33074ADR2GOSTR-ND; Supplier 2: Digi-Key; Supplier Part Number 2: MC33074ADR2GOSCT-ND; Supplier 3: Digi-Key; Supplier Part Number 3: MC33074ADR2GOSDKR-ND; Supplier 4: Newark; Supplier Part Number 4: 98H0673; Supplier 5: Mouser; Supplier Part Number 5: 863-MC33074ADR2G; Packing: Tape and Reel; RoHS: TRUE; Mounting Technology: Surface Mount; ComponentLink1Description: Manufacturer URL; ComponentLink1URL: http://www.onsemi.com/; ComponentLink2Description: Datasheet; ComponentLink2URL: http://www.onsemi.cn/pub_link/Collateral/MC34071-D.PDF; ComponentLink3Description: Package Specification; ComponentLink3URL: http://www.onsemi.com/pub_link/Collateral/751A-03.PDF
footprint ONSC-SOIC-14-751A-03_V (SOIC, 14-Leads, Body 8.75x4mm, Pitch 1.27mm)
pins on every part: 4 VCC (power), 11 VEE (power)
part A pins: 1 OUT1 (out), 2 IN1- (in), 3 IN1+ (in)
part B pins: 5 IN2+ (in), 6 IN2- (in), 7 OUT2 (out)
part C pins: 8 OUT3 (out), 9 IN3- (in), 10 IN3+ (in)
part D pins: 12 IN4+ (in), 13 IN4- (in), 14 OUT4 (out)

## MC33074ADTB
designator U?
Single Supply Operational Amplifier, 3 to 44 V, -40 to 85 degC, 14-Pin TSSOP, Pb-Free, Tube; Manufacturer: On Semiconductor; PartNumber: MC33074ADTB; GBW Typ (MHz): 4.5; VCC Max (V): 44; VCC Min (V): 3; DatasheetVersion: Rev. 22; PackageVersion: Rev. B, 10/2006; PackageReference: TSSOP-14-948G-01; PackageDescription: 14-Pin Small Outline Package, Body 5 x 4.4 mm, Pitch 0.65 mm; Supplier 1: Digi-Key; Supplier Part Number 1: MC33074ADTBOS-ND; Supplier 2: Mouser; Supplier Part Number 2: 863-MC33074ADTB; Packing: Tube; RoHS: TRUE; Mounting Technology: Surface Mount; ComponentLink1Description: Manufacturer URL; ComponentLink1URL: http://www.onsemi.com/; ComponentLink2Description: Datasheet; ComponentLink2URL: http://www.onsemi.cn/pub_link/Collateral/MC34071-D.PDF; ComponentLink3Description: Package Specification; ComponentLink3URL: http://www.onsemi.com/pub_link/Collateral/948G-01.PDF
footprint ONSC-TSSOP-14-948G-01_V (SOP, 14-Leads, Body 5.1x4.5mm, Pitch 0.65mm)
pins on every part: 4 VCC (power), 11 VEE (power)
part A pins: 1 OUT1 (out), 2 IN1- (in), 3 IN1+ (in)
part B pins: 5 IN2+ (in), 6 IN2- (in), 7 OUT2 (out)
part C pins: 8 OUT3 (out), 9 IN3- (in), 10 IN3+ (in)
part D pins: 12 IN4+ (in), 13 IN4- (in), 14 OUT4 (out)

## MC33074ADTBG
designator U?
Single Supply Operational Amplifier, 3 to 44 V, -40 to 85 degC, 14-Pin TSSOP, Pb-Free, Tube; Manufacturer: On Semiconductor; PartNumber: MC33074ADTBG; GBW Typ (MHz): 4.5; VCC Max (V): 44; VCC Min (V): 3; DatasheetVersion: Rev. 22; PackageVersion: Rev. B, 10/2006; PackageReference: TSSOP-14-948G-01; PackageDescription: 14-Pin Small Outline Package, Body 5 x 4.4 mm, Pitch 0.65 mm; Supplier 1: Digi-Key; Supplier Part Number 1: MC33074ADTBGOS-ND; Supplier 2: Farnell; Supplier Part Number 2: 1705871; Supplier 3: Newark; Supplier Part Number 3: 42K0572; Supplier 4: Mouser; Supplier Part Number 4: 863-MC33074ADTBG; Packing: Tube; RoHS: TRUE; Mounting Technology: Surface Mount; ComponentLink1Description: Manufacturer URL; ComponentLink1URL: http://www.onsemi.com/; ComponentLink2Description: Datasheet; ComponentLink2URL: http://www.onsemi.cn/pub_link/Collateral/MC34071-D.PDF; ComponentLink3Description: Package Specification; ComponentLink3URL: http://www.onsemi.com/pub_link/Collateral/948G-01.PDF
footprint ONSC-TSSOP-14-948G-01_V (SOP, 14-Leads, Body 5.1x4.5mm, Pitch 0.65mm)
pins on every part: 4 VCC (power), 11 VEE (power)
part A pins: 1 OUT1 (out), 2 IN1- (in), 3 IN1+ (in)
part B pins: 5 IN2+ (in), 6 IN2- (in), 7 OUT2 (out)
part C pins: 8 OUT3 (out), 9 IN3- (in), 10 IN3+ (in)
part D pins: 12 IN4+ (in), 13 IN4- (in), 14 OUT4 (out)

## MC33074ADTBR2G
designator U?
Single Supply Operational Amplifier, 3 to 44 V, -40 to 85 degC, 14-Pin TSSOP, Pb-Free, Tape and Reel; Manufacturer: On Semiconductor; PartNumber: MC33074ADTBR2G; GBW Typ (MHz): 4.5; VCC Max (V): 44; VCC Min (V): 3; DatasheetVersion: Rev. 22; PackageVersion: Rev. B, 10/2006; PackageReference: TSSOP-14-948G-01; PackageDescription: 14-Pin Small Outline Package, Body 5 x 4.4 mm, Pitch 0.65 mm; Supplier 1: Digi-Key; Supplier Part Number 1: MC33074ADTBR2GOSTR-ND; Supplier 2: Digi-Key; Supplier Part Number 2: MC33074ADTBR2GOSCT-ND; Supplier 3: Digi-Key; Supplier Part Number 3: MC33074ADTBR2GOSDKR-ND; Supplier 4: Newark; Supplier Part Number 4: 42K0573; Supplier 5: Mouser; Supplier Part Number 5: 863-MC33074ADTBR2G; Packing: Tape and Reel; RoHS: TRUE; Mounting Technology: Surface Mount; ComponentLink1Description: Manufacturer URL; ComponentLink1URL: http://www.onsemi.com/; ComponentLink2Description: Datasheet; ComponentLink2URL: http://www.onsemi.cn/pub_link/Collateral/MC34071-D.PDF; ComponentLink3Description: Package Specification; ComponentLink3URL: http://www.onsemi.com/pub_link/Collateral/948G-01.PDF
footprint ONSC-TSSOP-14-948G-01_V (SOP, 14-Leads, Body 5.1x4.5mm, Pitch 0.65mm)
pins on every part: 4 VCC (power), 11 VEE (power)
part A pins: 1 OUT1 (out), 2 IN1- (in), 3 IN1+ (in)
part B pins: 5 IN2+ (in), 6 IN2- (in), 7 OUT2 (out)
part C pins: 8 OUT3 (out), 9 IN3- (in), 10 IN3+ (in)
part D pins: 12 IN4+ (in), 13 IN4- (in), 14 OUT4 (out)

## MC33074AP
designator U?
Single Supply Operational Amplifier, 3 to 44 V, -40 to 85 degC, 14-Pin PDIP, Tube; Manufacturer: On Semiconductor; PartNumber: MC33074AP; GBW Typ (MHz): 4.5; VCC Max (V): 44; VCC Min (V): 3; DatasheetVersion: Rev. 22; PackageVersion: Rev. R, 06/2013; PackageReference: PDIP-14-646-06; PackageDescription: 14-Pin Plastic Dual-In Line Package, Body 19.18 x 6.605 mm, Pitch 2.54 mm; Packing: Tube; RoHS: FALSE; Mounting Technology: Through Hole; ComponentLink1Description: Manufacturer URL; ComponentLink1URL: http://www.onsemi.com/; ComponentLink2Description: Datasheet; ComponentLink2URL: http://www.onsemi.cn/pub_link/Collateral/MC34071-D.PDF; ComponentLink3Description: Package Specification; ComponentLink3URL: http://www.onsemi.com/pub_link/Collateral/646-06.PDF
footprint ONSC-PDIP-14-646-06 (DIP, 14-Leads, Body 19.7x7.1mm, Pitch 2.54mm)
pins on every part: 4 VCC (power), 11 VEE (power)
part A pins: 1 OUT1 (out), 2 IN1- (in), 3 IN1+ (in)
part B pins: 5 IN2+ (in), 6 IN2- (in), 7 OUT2 (out)
part C pins: 8 OUT3 (out), 9 IN3- (in), 10 IN3+ (in)
part D pins: 12 IN4+ (in), 13 IN4- (in), 14 OUT4 (out)

## MC33074APG
designator U?
Single Supply Operational Amplifier, 3 to 44 V, -40 to 85 degC, 14-Pin PDIP, Pb-Free, Tube; Manufacturer: On Semiconductor; PartNumber: MC33074APG; GBW Typ (MHz): 4.5; VCC Max (V): 44; VCC Min (V): 3; DatasheetVersion: Rev. 22; PackageVersion: Rev. R, 06/2013; PackageReference: PDIP-14-646-06; PackageDescription: 14-Pin Plastic Dual-In Line Package, Body 19.18 x 6.605 mm, Pitch 2.54 mm; Supplier 1: Digi-Key; Supplier Part Number 1: MC33074APGOS-ND; Supplier 2: Farnell; Supplier Part Number 2: 1126236; Supplier 3: Newark; Supplier Part Number 3: 42K0574; Supplier 4: Mouser; Supplier Part Number 4: 863-MC33074APG; Packing: Tube; RoHS: TRUE; Mounting Technology: Through Hole; ComponentLink1Description: Manufacturer URL; ComponentLink1URL: http://www.onsemi.com/; ComponentLink2Description: Datasheet; ComponentLink2URL: http://www.onsemi.cn/pub_link/Collateral/MC34071-D.PDF; ComponentLink3Description: Package Specification; ComponentLink3URL: http://www.onsemi.com/pub_link/Collateral/646-06.PDF
footprint ONSC-PDIP-14-646-06 (DIP, 14-Leads, Body 19.7x7.1mm, Pitch 2.54mm)
pins on every part: 4 VCC (power), 11 VEE (power)
part A pins: 1 OUT1 (out), 2 IN1- (in), 3 IN1+ (in)
part B pins: 5 IN2+ (in), 6 IN2- (in), 7 OUT2 (out)
part C pins: 8 OUT3 (out), 9 IN3- (in), 10 IN3+ (in)
part D pins: 12 IN4+ (in), 13 IN4- (in), 14 OUT4 (out)

## MC33074D
designator U?
Single Supply Operational Amplifier, 3 to 44 V, -40 to 85 degC, 14-Pin SOIC, Tube; Manufacturer: On Semiconductor; PartNumber: MC33074D; GBW Typ (MHz): 4.5; VCC Max (V): 44; VCC Min (V): 3; DatasheetVersion: Rev. 22; PackageVersion: Rev. K, 05/2011; PackageReference: SOIC-14-751A-03; PackageDescription: 14-Pin Small Outline Integrated Circuit, Body 8.65 x 3.9 mm, Pitch 1.27 mm; Packing: Tube; RoHS: FALSE; Mounting Technology: Surface Mount; ComponentLink1Description: Manufacturer URL; ComponentLink1URL: http://www.onsemi.com/; ComponentLink2Description: Datasheet; ComponentLink2URL: http://www.onsemi.cn/pub_link/Collateral/MC34071-D.PDF; ComponentLink3Description: Package Specification; ComponentLink3URL: http://www.onsemi.com/pub_link/Collateral/751A-03.PDF
footprint ONSC-SOIC-14-751A-03_V (SOIC, 14-Leads, Body 8.75x4mm, Pitch 1.27mm)
pins on every part: 4 VCC (power), 11 VEE (power)
part A pins: 1 OUT1 (out), 2 IN1- (in), 3 IN1+ (in)
part B pins: 5 IN2+ (in), 6 IN2- (in), 7 OUT2 (out)
part C pins: 8 OUT3 (out), 9 IN3- (in), 10 IN3+ (in)
part D pins: 12 IN4+ (in), 13 IN4- (in), 14 OUT4 (out)

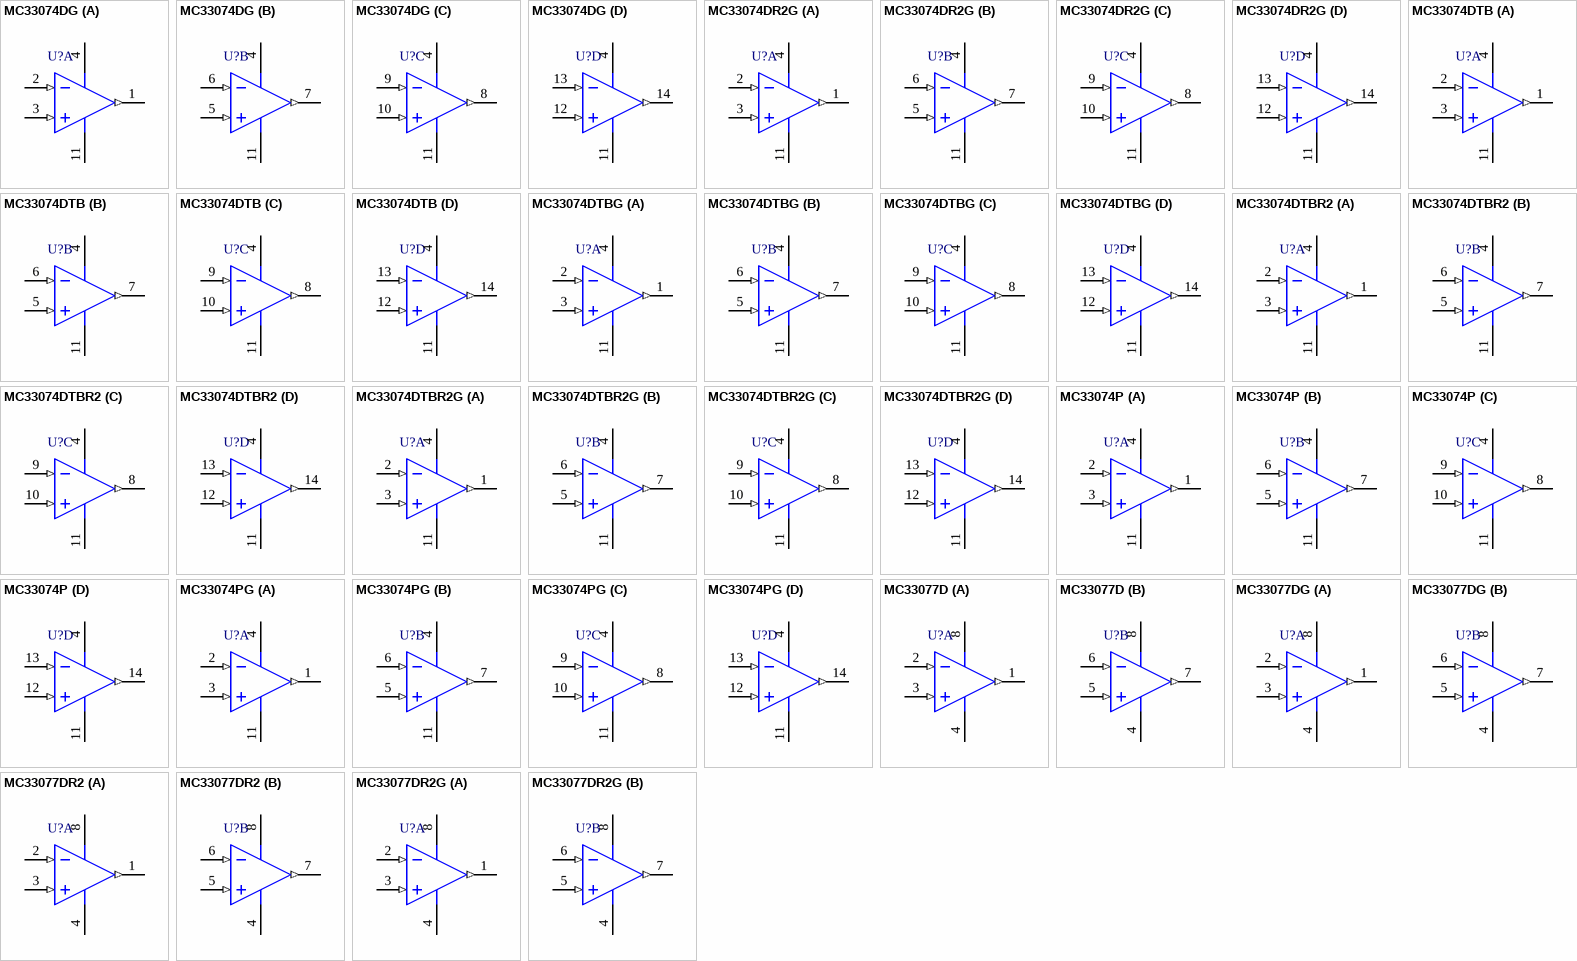
[diagram p9: symbols MC33074DG to MC33077DR2G]

## MC33074DG
designator U?
Single Supply Operational Amplifier, 3 to 44 V, -40 to 85 degC, 14-Pin SOIC, Pb-Free, Tube; Manufacturer: On Semiconductor; PartNumber: MC33074DG; GBW Typ (MHz): 4.5; VCC Max (V): 44; VCC Min (V): 3; DatasheetVersion: Rev. 22; PackageVersion: Rev. K, 05/2011; PackageReference: SOIC-14-751A-03; PackageDescription: 14-Pin Small Outline Integrated Circuit, Body 8.65 x 3.9 mm, Pitch 1.27 mm; Supplier 1: Digi-Key; Supplier Part Number 1: MC33074DGOS-ND; Supplier 2: Farnell; Supplier Part Number 2: 1211115; Supplier 3: Newark; Supplier Part Number 3: 97K4660; Supplier 4: Newark; Supplier Part Number 4: 45J1160; Supplier 5: Mouser; Supplier Part Number 5: 863-MC33074DG; Packing: Tube; RoHS: TRUE; Mounting Technology: Surface Mount; ComponentLink1Description: Manufacturer URL; ComponentLink1URL: http://www.onsemi.com/; ComponentLink2Description: Datasheet; ComponentLink2URL: http://www.onsemi.cn/pub_link/Collateral/MC34071-D.PDF; ComponentLink3Description: Package Specification; ComponentLink3URL: http://www.onsemi.com/pub_link/Collateral/751A-03.PDF
footprint ONSC-SOIC-14-751A-03_V (SOIC, 14-Leads, Body 8.75x4mm, Pitch 1.27mm)
pins on every part: 4 VCC (power), 11 VEE (power)
part A pins: 1 OUT1 (out), 2 IN1- (in), 3 IN1+ (in)
part B pins: 5 IN2+ (in), 6 IN2- (in), 7 OUT2 (out)
part C pins: 8 OUT3 (out), 9 IN3- (in), 10 IN3+ (in)
part D pins: 12 IN4+ (in), 13 IN4- (in), 14 OUT4 (out)

## MC33074DR2G
designator U?
Single Supply Operational Amplifier, 3 to 44 V, -40 to 85 degC, 14-Pin SOIC, Pb-Free, Tape and Reel; Manufacturer: On Semiconductor; PartNumber: MC33074DR2G; GBW Typ (MHz): 4.5; VCC Max (V): 44; VCC Min (V): 3; DatasheetVersion: Rev. 22; PackageVersion: Rev. K, 05/2011; PackageReference: SOIC-14-751A-03; PackageDescription: 14-Pin Small Outline Integrated Circuit, Body 8.65 x 3.9 mm, Pitch 1.27 mm; Supplier 1: Digi-Key; Supplier Part Number 1: MC33074DR2GOSTR-ND; Supplier 2: Digi-Key; Supplier Part Number 2: MC33074DR2GOSCT-ND; Supplier 3: Digi-Key; Supplier Part Number 3: MC33074DR2GOSDKR-ND; Supplier 4: Newark; Supplier Part Number 4: 98H0674; Supplier 5: Mouser; Supplier Part Number 5: 863-MC33074DR2G; Packing: Tape and Reel; RoHS: TRUE; Mounting Technology: Surface Mount; ComponentLink1Description: Manufacturer URL; ComponentLink1URL: http://www.onsemi.com/; ComponentLink2Description: Datasheet; ComponentLink2URL: http://www.onsemi.cn/pub_link/Collateral/MC34071-D.PDF; ComponentLink3Description: Package Specification; ComponentLink3URL: http://www.onsemi.com/pub_link/Collateral/751A-03.PDF
footprint ONSC-SOIC-14-751A-03_V (SOIC, 14-Leads, Body 8.75x4mm, Pitch 1.27mm)
pins on every part: 4 VCC (power), 11 VEE (power)
part A pins: 1 OUT1 (out), 2 IN1- (in), 3 IN1+ (in)
part B pins: 5 IN2+ (in), 6 IN2- (in), 7 OUT2 (out)
part C pins: 8 OUT3 (out), 9 IN3- (in), 10 IN3+ (in)
part D pins: 12 IN4+ (in), 13 IN4- (in), 14 OUT4 (out)

## MC33074DTB
designator U?
Single Supply Operational Amplifier, 3 to 44 V, -40 to 85 degC, 14-Pin TSSOP, Pb-Free, Tube; Manufacturer: On Semiconductor; PartNumber: MC33074DTB; GBW Typ (MHz): 4.5; VCC Max (V): 44; VCC Min (V): 3; DatasheetVersion: Rev. 22; PackageVersion: Rev. B, 10/2006; PackageReference: TSSOP-14-948G-01; PackageDescription: 14-Pin Small Outline Package, Body 5 x 4.4 mm, Pitch 0.65 mm; Supplier 1: Digi-Key; Supplier Part Number 1: MC33074DTB-ND; Supplier 2: Mouser; Supplier Part Number 2: 863-MC33074DTB; Packing: Tube; RoHS: TRUE; Mounting Technology: Surface Mount; ComponentLink1Description: Manufacturer URL; ComponentLink1URL: http://www.onsemi.com/; ComponentLink2Description: Datasheet; ComponentLink2URL: http://www.onsemi.cn/pub_link/Collateral/MC34071-D.PDF; ComponentLink3Description: Package Specification; ComponentLink3URL: http://www.onsemi.com/pub_link/Collateral/948G-01.PDF
footprint ONSC-TSSOP-14-948G-01_V (SOP, 14-Leads, Body 5.1x4.5mm, Pitch 0.65mm)
pins on every part: 4 VCC (power), 11 VEE (power)
part A pins: 1 OUT1 (out), 2 IN1- (in), 3 IN1+ (in)
part B pins: 5 IN2+ (in), 6 IN2- (in), 7 OUT2 (out)
part C pins: 8 OUT3 (out), 9 IN3- (in), 10 IN3+ (in)
part D pins: 12 IN4+ (in), 13 IN4- (in), 14 OUT4 (out)

## MC33074DTBG
designator U?
Single Supply Operational Amplifier, 3 to 44 V, -40 to 85 degC, 14-Pin TSSOP, Pb-Free, Tube; Manufacturer: On Semiconductor; PartNumber: MC33074DTBG; GBW Typ (MHz): 4.5; VCC Max (V): 44; VCC Min (V): 3; DatasheetVersion: Rev. 22; PackageVersion: Rev. B, 10/2006; PackageReference: TSSOP-14-948G-01; PackageDescription: 14-Pin Small Outline Package, Body 5 x 4.4 mm, Pitch 0.65 mm; Supplier 1: Digi-Key; Supplier Part Number 1: MC33074DTBGOS-ND; Supplier 2: Newark; Supplier Part Number 2: 42K0575; Supplier 3: Mouser; Supplier Part Number 3: 863-MC33074DTBG; Packing: Tube; RoHS: TRUE; Mounting Technology: Surface Mount; ComponentLink1Description: Manufacturer URL; ComponentLink1URL: http://www.onsemi.com/; ComponentLink2Description: Datasheet; ComponentLink2URL: http://www.onsemi.cn/pub_link/Collateral/MC34071-D.PDF; ComponentLink3Description: Package Specification; ComponentLink3URL: http://www.onsemi.com/pub_link/Collateral/948G-01.PDF
footprint ONSC-TSSOP-14-948G-01_V (SOP, 14-Leads, Body 5.1x4.5mm, Pitch 0.65mm)
pins on every part: 4 VCC (power), 11 VEE (power)
part A pins: 1 OUT1 (out), 2 IN1- (in), 3 IN1+ (in)
part B pins: 5 IN2+ (in), 6 IN2- (in), 7 OUT2 (out)
part C pins: 8 OUT3 (out), 9 IN3- (in), 10 IN3+ (in)
part D pins: 12 IN4+ (in), 13 IN4- (in), 14 OUT4 (out)

## MC33074DTBR2
designator U?
Single Supply Operational Amplifier, 3 to 44 V, -40 to 85 degC, 14-Pin TSSOP, Pb-Free, Tape and Reel; Manufacturer: On Semiconductor; PartNumber: MC33074DTBR2; GBW Typ (MHz): 4.5; VCC Max (V): 44; VCC Min (V): 3; DatasheetVersion: Rev. 22; PackageVersion: Rev. B, 10/2006; PackageReference: TSSOP-14-948G-01; PackageDescription: 14-Pin Small Outline Package, Body 5 x 4.4 mm, Pitch 0.65 mm; Supplier 1: Digi-Key; Supplier Part Number 1: MC33074DTBR2OS-ND; Supplier 2: Mouser; Supplier Part Number 2: 863-MC33074DTBR2; Packing: Tape and Reel; RoHS: TRUE; Mounting Technology: Surface Mount; ComponentLink1Description: Manufacturer URL; ComponentLink1URL: http://www.onsemi.com/; ComponentLink2Description: Datasheet; ComponentLink2URL: http://www.onsemi.cn/pub_link/Collateral/MC34071-D.PDF; ComponentLink3Description: Package Specification; ComponentLink3URL: http://www.onsemi.com/pub_link/Collateral/948G-01.PDF
footprint ONSC-TSSOP-14-948G-01_V (SOP, 14-Leads, Body 5.1x4.5mm, Pitch 0.65mm)
pins on every part: 4 VCC (power), 11 VEE (power)
part A pins: 1 OUT1 (out), 2 IN1- (in), 3 IN1+ (in)
part B pins: 5 IN2+ (in), 6 IN2- (in), 7 OUT2 (out)
part C pins: 8 OUT3 (out), 9 IN3- (in), 10 IN3+ (in)
part D pins: 12 IN4+ (in), 13 IN4- (in), 14 OUT4 (out)

## MC33074DTBR2G
designator U?
Single Supply Operational Amplifier, 3 to 44 V, -40 to 85 degC, 14-Pin TSSOP, Pb-Free, Tape and Reel; Manufacturer: On Semiconductor; PartNumber: MC33074DTBR2G; GBW Typ (MHz): 4.5; VCC Max (V): 44; VCC Min (V): 3; DatasheetVersion: Rev. 22; PackageVersion: Rev. B, 10/2006; PackageReference: TSSOP-14-948G-01; PackageDescription: 14-Pin Small Outline Package, Body 5 x 4.4 mm, Pitch 0.65 mm; Supplier 1: Digi-Key; Supplier Part Number 1: MC33074DTBR2GOSTR-ND; Supplier 2: Digi-Key; Supplier Part Number 2: MC33074DTBR2GOSCT-ND; Supplier 3: Digi-Key; Supplier Part Number 3: MC33074DTBR2GOSDKR-ND; Supplier 4: Mouser; Supplier Part Number 4: 863-MC33074DTBR2G; Packing: Tape and Reel; RoHS: TRUE; Mounting Technology: Surface Mount; ComponentLink1Description: Manufacturer URL; ComponentLink1URL: http://www.onsemi.com/; ComponentLink2Description: Datasheet; ComponentLink2URL: http://www.onsemi.cn/pub_link/Collateral/MC34071-D.PDF; ComponentLink3Description: Package Specification; ComponentLink3URL: http://www.onsemi.com/pub_link/Collateral/948G-01.PDF
footprint ONSC-TSSOP-14-948G-01_V (SOP, 14-Leads, Body 5.1x4.5mm, Pitch 0.65mm)
pins on every part: 4 VCC (power), 11 VEE (power)
part A pins: 1 OUT1 (out), 2 IN1- (in), 3 IN1+ (in)
part B pins: 5 IN2+ (in), 6 IN2- (in), 7 OUT2 (out)
part C pins: 8 OUT3 (out), 9 IN3- (in), 10 IN3+ (in)
part D pins: 12 IN4+ (in), 13 IN4- (in), 14 OUT4 (out)

## MC33074P
designator U?
Single Supply Operational Amplifier, 3 to 44 V, -40 to 85 degC, 14-Pin PDIP, Tube; Manufacturer: On Semiconductor; PartNumber: MC33074P; GBW Typ (MHz): 4.5; VCC Max (V): 44; VCC Min (V): 3; DatasheetVersion: Rev. 22; PackageVersion: Rev. R, 06/2013; PackageReference: PDIP-14-646-06; PackageDescription: 14-Pin Plastic Dual-In Line Package, Body 19.18 x 6.605 mm, Pitch 2.54 mm; Packing: Tube; RoHS: FALSE; Mounting Technology: Through Hole; ComponentLink1Description: Manufacturer URL; ComponentLink1URL: http://www.onsemi.com/; ComponentLink2Description: Datasheet; ComponentLink2URL: http://www.onsemi.cn/pub_link/Collateral/MC34071-D.PDF; ComponentLink3Description: Package Specification; ComponentLink3URL: http://www.onsemi.com/pub_link/Collateral/646-06.PDF
footprint ONSC-PDIP-14-646-06 (DIP, 14-Leads, Body 19.7x7.1mm, Pitch 2.54mm)
pins on every part: 4 VCC (power), 11 VEE (power)
part A pins: 1 OUT1 (out), 2 IN1- (in), 3 IN1+ (in)
part B pins: 5 IN2+ (in), 6 IN2- (in), 7 OUT2 (out)
part C pins: 8 OUT3 (out), 9 IN3- (in), 10 IN3+ (in)
part D pins: 12 IN4+ (in), 13 IN4- (in), 14 OUT4 (out)

## MC33074PG
designator U?
Single Supply Operational Amplifier, 3 to 44 V, -40 to 85 degC, 14-Pin PDIP, Pb-Free, Tube; Manufacturer: On Semiconductor; PartNumber: MC33074PG; GBW Typ (MHz): 4.5; VCC Max (V): 44; VCC Min (V): 3; DatasheetVersion: Rev. 22; PackageVersion: Rev. R, 06/2013; PackageReference: PDIP-14-646-06; PackageDescription: 14-Pin Plastic Dual-In Line Package, Body 19.18 x 6.605 mm, Pitch 2.54 mm; Supplier 1: Digi-Key; Supplier Part Number 1: MC33074PGOS-ND; Supplier 2: Farnell; Supplier Part Number 2: 9666800; Supplier 3: Newark; Supplier Part Number 3: 26K3999; Supplier 4: Mouser; Supplier Part Number 4: 863-MC33074PG; Packing: Tube; RoHS: TRUE; Mounting Technology: Through Hole; ComponentLink1Description: Manufacturer URL; ComponentLink1URL: http://www.onsemi.com/; ComponentLink2Description: Datasheet; ComponentLink2URL: http://www.onsemi.cn/pub_link/Collateral/MC34071-D.PDF; ComponentLink3Description: Package Specification; ComponentLink3URL: http://www.onsemi.com/pub_link/Collateral/646-06.PDF
footprint ONSC-PDIP-14-646-06 (DIP, 14-Leads, Body 19.7x7.1mm, Pitch 2.54mm)
pins on every part: 4 VCC (power), 11 VEE (power)
part A pins: 1 OUT1 (out), 2 IN1- (in), 3 IN1+ (in)
part B pins: 5 IN2+ (in), 6 IN2- (in), 7 OUT2 (out)
part C pins: 8 OUT3 (out), 9 IN3- (in), 10 IN3+ (in)
part D pins: 12 IN4+ (in), 13 IN4- (in), 14 OUT4 (out)

## MC33077D
designator U?
Low Noise Dual Operational Amplifier, 5 to 36 V, -40 to 85 degC, 8-Pin SOIC, Tube; Manufacturer: On Semiconductor; PartNumber: MC33077D; GBW Typ (MHz): 37; SR Typ (V/uS): 11; VCC Max (V): 36; VCC Min (V): 5; DatasheetVersion: Rev. 5; PackageVersion: Rev. AK, 02/2011; PackageReference: SOIC-8-751-07; PackageDescription: 8-Pin Small Outline Integrated Circuit, Body 4.9 x 3.9 mm, Pitch 1.27 mm; Packing: Tube; RoHS: FALSE; Mounting Technology: Surface Mount; ComponentLink1Description: Manufacturer URL; ComponentLink1URL: http://www.onsemi.com/; ComponentLink2Description: Datasheet; ComponentLink2URL: http://www.onsemi.cn/pub_link/Collateral/MC33077-D.PDF; ComponentLink3Description: Package Specification; ComponentLink3URL: http://www.onsemi.com/pub_link/Collateral/751-07.PDF
footprint ONSC-SOIC-8-751-07_V (SOIC, 8-Leads, Body 4.9x3.9mm, Pitch 1.27mm)
pins on every part: 4 VEE (power), 8 VCC (power)
part A pins: 1 OUT1 (out), 2 IN1- (in), 3 IN1+ (in)
part B pins: 5 IN2+ (in), 6 IN2- (in), 7 OUT2 (out)